# Altium footprint library TB005-762-02BE.PcbLib: 1 footprints
Each footprint in its own frame and in the unit in brackets; x right, y up, seen from the top. Pads: shape width x height; smd on the part's side, far side on the other; paste and mask are expansions set on the pad; w line width, h text height; cw(c..) or ccw(c..) is an arc to the next point about the centre after c.
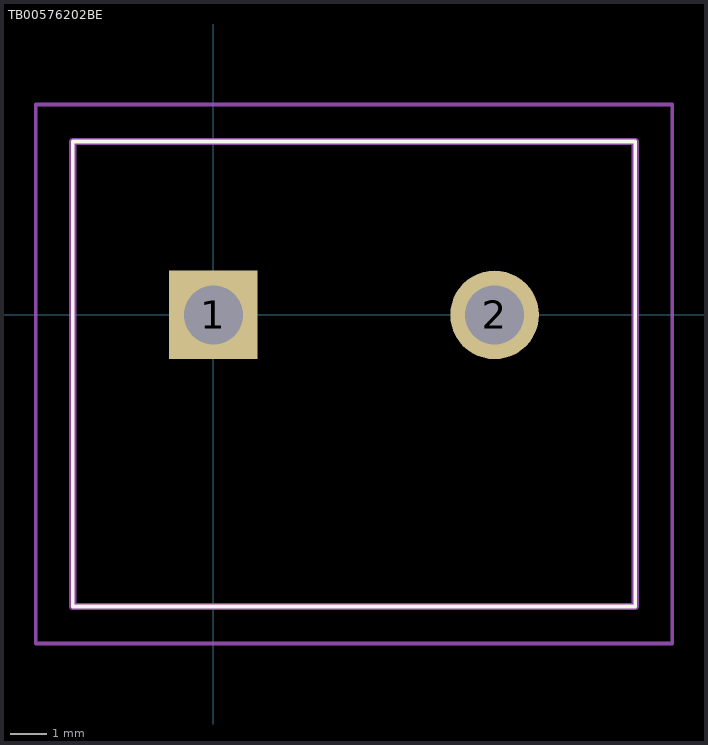
[diagram p0: the footprint, top view; thin cyan lines are the x and y axes]

## TB00576202BE [mm]
pads (2):
  rect 2.4x2.4 hole 1.6: 1(0,0)
  round 2.4 hole 1.6: 2(7.62,0)
Top Overlay:
  lines w0.1: -3.81,-7.9 -3.81,4.7 11.43,4.7 11.43,-7.9 -3.81,-7.9
Mechanical 13:
  lines w0.2: -3.81,-7.9 -3.81,4.7 11.43,4.7 11.43,-7.9 -3.81,-7.9
Mechanical 15:
  lines w0.1: -4.81,-8.9 -4.81,5.7 12.43,5.7 12.43,-8.9 -4.81,-8.9
3D body "TB005-762-02BE.stp": height 21.7, standoff -4.75, extent -4.46,-7.9 11.38,4.7